# Altium schematic symbol library 0.96OLEDLCD.SchLib: 1 symbol
Pins are listed as number, name and electrical type; pins without a type are passive.

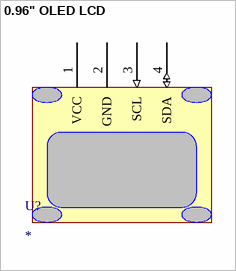
[diagram p0: symbol 0.96" OLED LCD]

## 0.96" OLED LCD
designator U?
pins: 1 VCC (power), 2 GND (power), 3 SCL (in), 4 SDA (io)